# EAGLE library part LNK6XXXX (library power_integrations)
A LinkSwitch-HP device monolithically integrates a controller and high-voltage power MOSFET into one package. It has a newly developed analogue control scheme, which enables continuous conduction mode (CCM), primary side regulated (PSR) power supplies up to 90 W without the efficiency limitation of DCM or audible noise. It uses an enhanced peak current mode PWM control scheme with multi-mode operation. The multi-mode control engine uses the error amplifier output signal voltage at the COMPENSATION pin to set the operating peak current and switching frequency to maintain the output voltage in regulation as shown in Figure 5. For COMPENSATION pin voltages lower than VC(MCM) (typ. 1.25 V) the device enters multi-cycle modulation (MCM) with a fixed peak current of 25% of the programmed current limit. Several innovative improvements have been added to the peak current mode control to allow primary side regulated CCM operation with no instability. The device meets less than 30 mW input power with no-load at high-line (LNK67xx families).
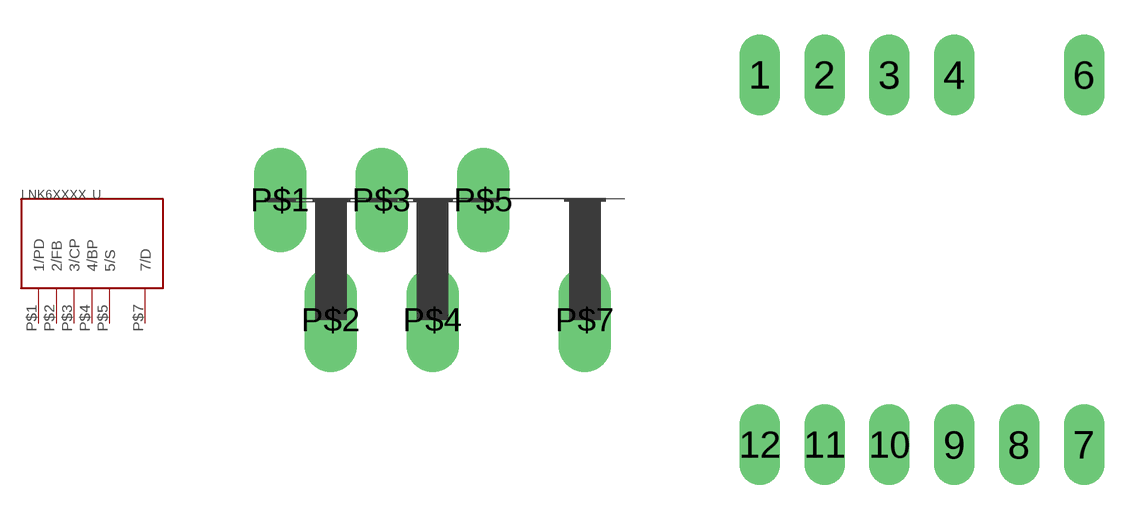
[diagram p6: symbol with the pads of SIP-E-7C(E_PACKAGE); footprints SIP-E-7C(E_PACKAGE), DIP-E-12B(V_PACKAGE)]

Designator prefix -

## LNK6XXXX  [SIP-E-7C(E_PACKAGE)]
P$1  1/PD
P$2  2/FB
P$3  3/CP
P$4  4/BP
P$5  5/S
P$7  7/D

## LNK6XXXXDIP-E-12B(V_PACKAGE)  [DIP-E-12B(V_PACKAGE)]
1  1/PD
2  2/FB
3  3/CP
4  4/BP
6  7/D
9  5/S

## Footprint SIP-E-7C(E_PACKAGE) (pad centres in mm)
drill 0.8 long: P$1 -3.81,1.5; P$2 -2.54,-1.5; P$3 -1.27,1.5; P$4 0,-1.5; P$5 1.27,1.5; P$7 3.81,-1.5

## Footprint DIP-E-12B(V_PACKAGE) (pad centres in mm)
drill 0.6 pad 1.016 long: 1 -4.45,5.08; 2 -2.67,5.08; 3 -0.89,5.08; 4 0.89,5.08; 6 4.45,5.08; 7 4.45,-5.08; 8 2.67,-5.08; 9 0.89,-5.08; 10 -0.89,-5.08; 11 -2.67,-5.08; 12 -4.45,-5.08